# Altium footprint library urover.PCBLIB: 175 footprints (part 4 of 11)
Each footprint in its own frame and in the unit in brackets; x right, y up, seen from the top. Pads: shape width x height; smd on the part's side, far side on the other; paste and mask are expansions set on the pad; w line width, h text height; cw(c..) or ccw(c..) is an arc to the next point about the centre after c.
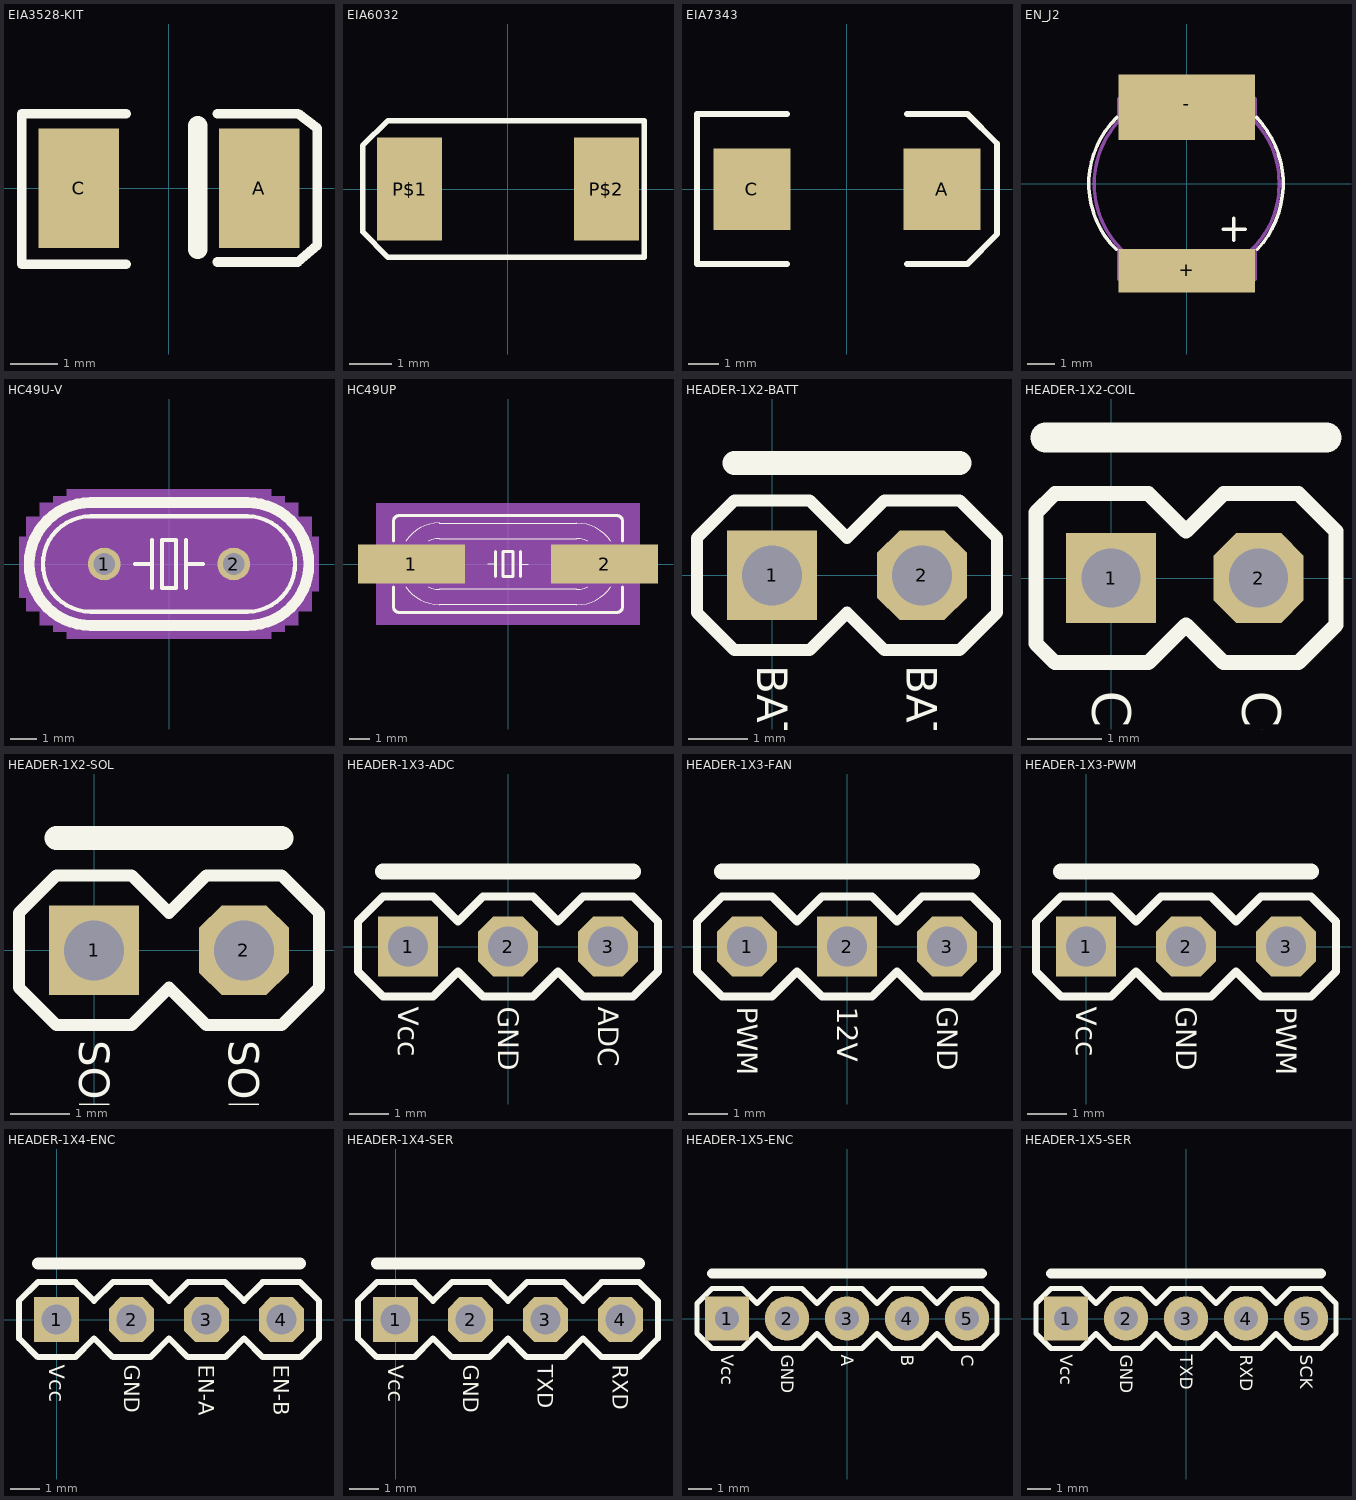
[diagram p3: the footprints below, top view; thin cyan lines are the x and y axes]

## EIA3528-KIT [mil]
pads (2):
  rect 67x99 smd: A(75,0) C(-74.8,0)
Top Overlay:
  lines w8: -35.43,-62.99 -122.05,-62.99 -122.05,62 -35.43,62 ; 40,-61.02 107,-61.02 123,-47.24 123,50 107,62 40,62
  lines w16: 24,-50.63 24,52

## EIA6032 [mil]
pads (2):
  rect 60x95 smd: P$1(-90.55,0) P$2(91,0)
Top Overlay:
  lines w5: -133.86,-39.37 -133.86,40 -110.24,63 126,63 126,-62.99 -110.24,-62.99 -133.86,-39.37

## EIA7343 [mil]
pads (2):
  rect 101x107 smd: A(125,0) C(-124.8,0)
Top Overlay:
  lines w8: -78.74,-98.43 -196.85,-98.43 -196.85,99 -78.74,99 ; 79,-98.43 158,-98.43 197,-59.06 197,60 158,99 79,99

## EN_J2 [mil]
pads (2):
  rect 197x63 smd: +(0,-125.98)
  rect 197x95 smd: -(0,111)
Top Overlay:
  lines w5: -102,-95 cw(c-8,0.01) -101,96 ; 53,-66 85,-66 ; 68,-82 68,-50 ; 101,96 cw(c0.5,-0.03) 102,-95
Mechanical 16:
  circle w5: c0,0 r134
  lines w5: -98.43,-90.55 -98.43,-137.8 99,-137.8 99,-90.55 ; -98.43,91 -98.43,123 -82.68,138 83,138 99,123 99,91

## HC49U-V [mil]
pads (2):
  round 48 hole 32: 1(-95,0) 2(95,0)
Top Overlay:
  lines w6: -50,0 -25,0 ; -25,-35 -25,0 ; -25,35 -25,0 ; 25,-35 25,0 ; 25,35 25,0 ; 50,0 25,0 ; -115,-70 115,-70 ccw(c115,0) 115,70 -115,70 ccw(c-115,0) -115,-70 ; -10,-35 10,-35 10,35 -10,35 -10,-35
  lines w16: -115,-90 115,-90 ccw(c115,0) 115,90 -115,90 ccw(c-115,0) -115,-90
Mechanical 10:
  rectangle: -150,-110 150,110
  rectangle: -170,-100 -150,100
  rectangle: -190,-90 -170,90
  rectangle: -210,-70 -190,70
  rectangle: -220,-50 -210,40
  rectangle: 150,-100 170,100
  rectangle: 170,-90 190,90
  rectangle: 190,-70 210,70
  rectangle: 210,-40 220,40

## HC49UP [mil]
pads (2):
  rect 210x76 smd: 1(-190,0) 2(190,0)
Top Overlay:
  lines w2: -201.15,-45 ccw(c-135,0) -135,-80 135,-80 ccw(c135.42,0.81) 202,-45 ; -201.15,45 cw(c-134.06,0.5) -135,81 ; -156.8,-45 ccw(c-135,0) -135,-50 135,-50 ccw(c135.1,0.45) 157,-45 ; -156.8,45 cw(c-135,0) -135,50 135,50 cw(c135.1,-0.45) 157,45 ; -135,80 135,80 cw(c135.43,-0.81) 202,45 ; -40,0 -25,0 ; 25,0 40,0
  lines w6: -225,-45 -225,-85 ccw(c-215,-85) -215,-95 215,-95 ccw(c215,-85) 225,-85 225,-45 ; -225,45 -225,85 cw(c-215,85) -215,95 215,95 cw(c215,85) 225,85 225,45 ; -25,-25 -25,0 -25,25 ; 25,-25 25,0 25,25 ; -10,-25 -10,25 10,25 10,-25 -10,-25
Mechanical 10:
  rectangle: -260,-120 260,120
Mechanical 16:
  lines w2: -201.15,-45 cw(c-135,0) -201.15,45 ; -156.8,-45 cw(c-135,0) -156.8,45 ; 157,-45 ccw(c135.2,0) 157,45 ; 202,-45 ccw(c135.85,0) 202,45
  lines w6: -225,-45 -225,-15 ; -225,45 -225,15 ; 225,-45 225,45 ; 225,-15 255,-15 255,15 225,15 ; -225,-15 -225,15 ; -225,-15 -255,-15 -255,15 -225,15

## HEADER-1X2-BATT [mil]
pads (2):
  rect 60x60 hole 40: 1(0,0)
  oct 60x60 hole 40: 2(100,0)
Top Overlay:
  lines w8: -50,-25 -50,25 -25,50 25,50 50,25 75,50 125,50 150,25 150,-25 125,-50 75,-50 50,-25 25,-50 -25,-50 -50,-25
  lines w16: -25,75 125,75
  text "BAT+" at -10,-60 h20.4
  text "BAT-" at 90,-60 h20.4
Mechanical 16:
  rectangle: 90,-10 110,10
  rectangle: -10,-10 10,10

## HEADER-1X2-COIL [mm]
pads (2):
  rect 1.22x1.22 hole 0.8: 1(0,0)
  oct 1.22x1.22 hole 0.8: 2(2,0)
Top Overlay:
  lines w0.203: -1.016,-0.889 -0.762,-1.143 0.508,-1.143 1.016,-0.635 1.524,-1.143 2.54,-1.143 3.048,-0.635 3.048,0.635 2.54,1.143 1.524,1.143 1.016,0.635 0.508,1.143 -0.762,1.143 -1.016,0.889 -1.016,-0.889
  lines w0.406: -0.889,1.905 2.921,1.905
  text "COIL-" at 1.778,-1.524 h0.52
  text "COIL+" at -0.254,-1.524 h0.52
Mechanical 16:
  rectangle: -0.254,-0.254 0.254,0.254
  rectangle: 1.778,-0.254 2.286,0.254
3D body: height 8.51, standoff -3.29, extent -2.874,-2.648 4.826,2.902

## HEADER-1X2-SOL [mil]
pads (2):
  rect 60x60 hole 40: 1(0,0)
  oct 60x60 hole 40: 2(100,0)
Top Overlay:
  lines w8: -50,-25 -25,-50 25,-50 50,-25 75,-50 125,-50 150,-25 150,25 125,50 75,50 50,25 25,50 -25,50 -50,25 -50,-25
  lines w16: -25,75 125,75
  text "SOLAR-" at 90,-60 h20.4
  text "SOLAR+" at -10,-60 h20.4
Mechanical 16:
  rectangle: -10,-10 10,10
  rectangle: 90,-10 110,10

## HEADER-1X3-ADC [mil]
pads (3):
  rect 60x60 hole 40: 1(-100,0)
  oct 60x60 hole 40: 2(0,0) 3(100,0)
Top Overlay:
  lines w8: -150,-25 -150,25 -125,50 -75,50 -50,25 -25,50 25,50 50,25 75,50 125,50 150,25 150,-25 125,-50 75,-50 50,-25 25,-50 -25,-50 -50,-25 -75,-50 -125,-50 -150,-25
  lines w16: -125,75 125,75
  text "Vcc" at -110,-60 h20.4
  text "GND" at -10,-60 h20.4
  text "ADC" at 90,-60 h20.4
Mechanical 16:
  rectangle: 90,-10 110,10
  rectangle: -10,-10 10,10
  rectangle: -110,-10 -90,10

## HEADER-1X3-FAN [mil]
pads (3):
  oct 60x60 hole 40: 1(-100,0) 3(100,0)
  rect 60x60 hole 40: 2(0,0)
Top Overlay:
  lines w8: -150,-25 -150,25 -125,50 -75,50 -50,25 -25,50 25,50 50,25 75,50 125,50 150,25 150,-25 125,-50 75,-50 50,-25 25,-50 -25,-50 -50,-25 -75,-50 -125,-50 -150,-25
  lines w16: -125,75 125,75
  text "PWM" at -110,-60 h20.4
  text "12V" at -10,-60 h20.4
  text "GND" at 90,-60 h20.4
Mechanical 16:
  rectangle: 90,-10 110,10
  rectangle: -10,-10 10,10
  rectangle: -110,-10 -90,10

## HEADER-1X3-PWM [mil]
pads (3):
  rect 60x60 hole 40: 1(0,0)
  oct 60x60 hole 40: 2(100,0) 3(200,0)
Top Overlay:
  lines w8: -50,-25 -50,25 -25,50 25,50 50,25 75,50 125,50 150,25 175,50 225,50 250,25 250,-25 225,-50 175,-50 150,-25 125,-50 75,-50 50,-25 25,-50 -25,-50 -50,-25
  lines w16: -25,75 225,75
  text "Vcc" at -10,-60 h20.4
  text "GND" at 90,-60 h20.4
  text "PWM" at 190,-60 h20.4
Mechanical 16:
  rectangle: 190,-10 210,10
  rectangle: 90,-10 110,10
  rectangle: -10,-10 10,10

## HEADER-1X4-ENC [mil]
pads (4):
  rect 60x60 hole 40: 1(0,0)
  oct 60x60 hole 40: 2(100,0) 3(200,0) 4(300,0)
Top Overlay:
  lines w8: -50,-25 -50,25 -25,50 25,50 50,25 75,50 125,50 150,25 175,50 225,50 250,25 275,50 325,50 350,25 350,-25 325,-50 275,-50 250,-25 225,-50 175,-50 150,-25 125,-50 75,-50 50,-25 25,-50 -25,-50 -50,-25
  lines w16: -25,75 325,75
  text "Vcc" at -10,-60 h20.4
  text "EN-B" at 290,-60 h20.4
  text "EN-A" at 190,-60 h20.4
  text "GND" at 90,-60 h20.4
Mechanical 16:
  rectangle: 290,-10 310,10
  rectangle: 190,-10 210,10
  rectangle: 90,-10 110,10
  rectangle: -10,-10 10,10

## HEADER-1X4-SER [mil]
pads (4):
  rect 60x60 hole 40: 1(0,0)
  oct 60x60 hole 40: 2(100,0) 3(200,0) 4(300,0)
Top Overlay:
  lines w8: -50,-25 -50,25 -25,50 25,50 50,25 75,50 125,50 150,25 175,50 225,50 250,25 275,50 325,50 350,25 350,-25 325,-50 275,-50 250,-25 225,-50 175,-50 150,-25 125,-50 75,-50 50,-25 25,-50 -25,-50 -50,-25
  lines w16: -25,75 325,75
  text "Vcc" at -10,-60 h20.4
  text "TXD" at 190,-60 h20.4
  text "RXD" at 290,-60 h20.4
  text "GND" at 90,-60 h20.4
Mechanical 16:
  rectangle: 290,-10 310,10
  rectangle: 190,-10 210,10
  rectangle: 90,-10 110,10
  rectangle: -10,-10 10,10

## HEADER-1X5-ENC [mil]
pads (5):
  rect 74x74 hole 40: 1(-200,0)
  round 74 hole 40: 2(-100,0) 3(0,0) 4(100,0) 5(200,0)
Top Overlay:
  lines w8: -250,-25 -250,25 -225,50 -175,50 -150,25 -125,50 -75,50 -50,25 -25,50 25,50 50,25 75,50 125,50 150,25 175,50 225,50 250,25 250,-25 225,-50 175,-50 150,-25 125,-50 75,-50 50,-25 25,-50 -25,-50 -50,-25 -75,-50 -125,-50 -150,-25 -175,-50 -225,-50 -250,-25
  lines w16: -225,75 225,75
  text "Vcc" at -210,-60 h20.4
  text "A" at -10,-60 h20.4
  text "B" at 90,-60 h20.4
  text "GND" at -110,-60 h20.4
  text "C" at 190,-60 h20.4
Mechanical 16:
  rectangle: 90,-10 110,10
  rectangle: -10,-10 10,10
  rectangle: -110,-10 -90,10
  rectangle: -210,-10 -190,10
  rectangle: 190,-10 210,10

## HEADER-1X5-SER [mil]
pads (5):
  rect 74x74 hole 40: 1(-200,0)
  round 74 hole 40: 2(-100,0) 3(0,0) 4(100,0) 5(200,0)
Top Overlay:
  lines w8: -250,-25 -250,25 -225,50 -175,50 -150,25 -125,50 -75,50 -50,25 -25,50 25,50 50,25 75,50 125,50 150,25 175,50 225,50 250,25 250,-25 225,-50 175,-50 150,-25 125,-50 75,-50 50,-25 25,-50 -25,-50 -50,-25 -75,-50 -125,-50 -150,-25 -175,-50 -225,-50 -250,-25
  lines w16: -225,75 225,75
  text "Vcc" at -210,-60 h20.4
  text "TXD" at -10,-60 h20.4
  text "RXD" at 90,-60 h20.4
  text "GND" at -110,-60 h20.4
  text "SCK" at 190,-60 h20.4
Mechanical 16:
  rectangle: 90,-10 110,10
  rectangle: -10,-10 10,10
  rectangle: -110,-10 -90,10
  rectangle: -210,-10 -190,10
  rectangle: 190,-10 210,10